# EAGLE library part Q_LT3724EFE (library MRDT-2014-All)
High Voltage, Current Mode Switching Regulator Controller
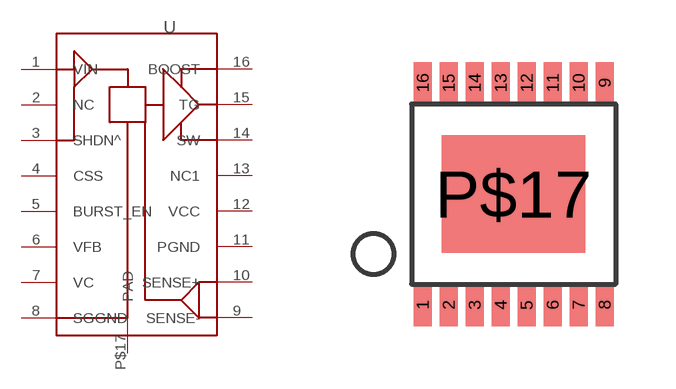
[diagram p1: symbol with the pads of TSSO4.4; footprint TSSO4.4]

Designator prefix -

## Q_LT3724EFE  [TSSO4.4]
1  VIN
2  NC
3  SHDN^
4  CSS
5  BURST_EN
6  VFB
7  VC
8  SGGND
9  SENSE-
10  SENSE+
11  PGND
12  VCC
13  NC1
14  SW
15  TG
16  BOOST
P$17  PAD

## Footprint TSSO4.4 (pad centres in mm)
FE Package 16-Lead Plastic TSSOP (4.4mm)
smd 0.45 x 1.05: 1 -2.275,-2.775; 2 -1.625,-2.775; 3 -0.975,-2.775; 4 -0.325,-2.775; 5 0.325,-2.775; 6 0.975,-2.775; 7 1.625,-2.775; 8 2.275,-2.775; 9 2.275,2.775; 10 1.625,2.775; 11 0.975,2.775; 12 0.325,2.775; 13 -0.325,2.775; 14 -0.975,2.775; 15 -1.625,2.775; 16 -2.275,2.775
smd 3.58 x 2.94: P$17 0,0